# EAGLE library part DIP04DPDTS (library switch-dil-jlb)
DIL/CODE SWITCH
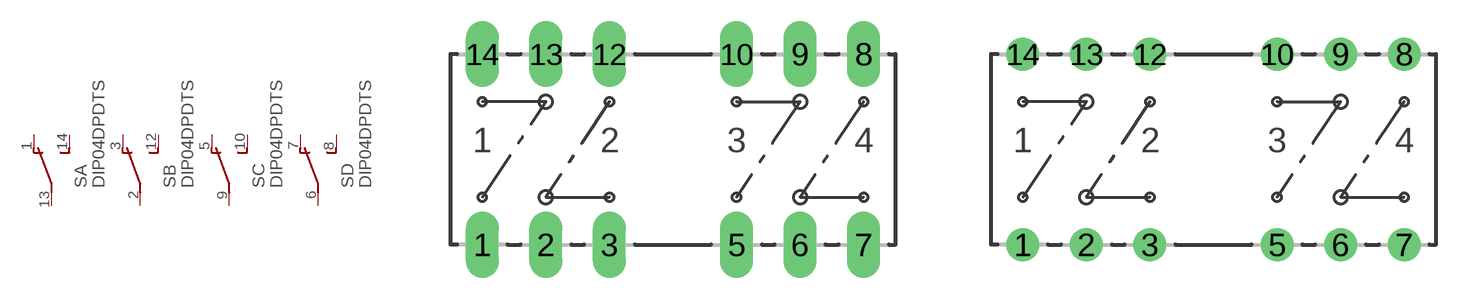
[diagram p0: symbol with the pads of DIP04DPDTS; footprints DIP04DPDTS, DIP04DPDTS-RP]

Designator prefix S; gates A=U B=U C=U D=U

## DIP04DPDTS (OC_FARNELL: unknown; OC_NEWARK: unknown)  [DIP04DPDTS]
1  A:O  pas
2  B:P  pas
3  B:O  pas
5  C:O  pas
6  D:P  pas
7  D:O  pas
8  D:S  pas
9  C:P  pas
10  C:S  pas
12  B:S  pas
13  A:P  pas
14  A:S  pas

## DIP04DPDTS-RP  [DIP04DPDTS-RP]
Pads as for DIP04DPDTS

## Footprint DIP04DPDTS (pad centres in mm)
DIL/CODE SWITCH
drill 0.813 long: 1 -7.62,-3.81; 2 -5.08,-3.81; 3 -2.54,-3.81; 5 2.54,-3.81; 6 5.08,-3.81; 7 7.62,-3.81; 8 7.62,3.81; 9 5.08,3.81; 10 2.54,3.81; 12 -2.54,3.81; 13 -5.08,3.81; 14 -7.62,3.81

## Footprint DIP04DPDTS-RP (pad centres in mm)
DIL/CODE SWITCH
drill 0.813: 1 -7.62,-3.81; 2 -5.08,-3.81; 3 -2.54,-3.81; 5 2.54,-3.81; 6 5.08,-3.81; 7 7.62,-3.81; 8 7.62,3.81; 9 5.08,3.81; 10 2.54,3.81; 12 -2.54,3.81; 13 -5.08,3.81; 14 -7.62,3.81